# Altium schematic symbol library sm_misc.SchLib: 3 symbols
Pins are listed as number, name and electrical type; pins without a type are passive.

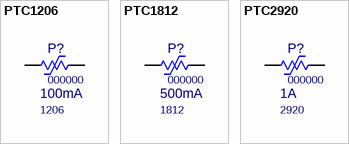
[diagram p0: symbols PTC1206 to PTC2920]

## PTC1206
designator P?, comment 000000  value 100mA  Package: 1206
Ppolymeric Positive Temperature Coefficient Device; PN: 000000; ExtraInfo: *; MF: *; MF-PN: *
footprint F1206 (Chip Fuse)
footprint F1206L (Chip Fuse 1206 - Low Density)
pins: 1, 2

## PTC1812
designator P?, comment 000000  value 500mA  Package: 1812
Ppolymeric Positive Temperature Coefficient Device; PN: 000000; ExtraInfo: *; MF: *; MF-PN: *
footprint F1812M (Chip Resistor, 2-Leads, Body 4.5x3.2mm, IPC Medium Density)
pins: 1, 2

## PTC2920
designator P?, comment 000000  value 1A  Package: 2920
Ppolymeric Positive Temperature Coefficient Device; PN: 000000; ExtraInfo: *; MF: *; MF-PN: *
footprint F2920M (Chip Resistor, 2-Leads, Body 7.2x5.1mm, IPC Medium Density)
pins: 1, 2